# Altium footprint library X_8X4.5.PcbLib: 1 footprints
Each footprint in its own frame and in the unit in brackets; x right, y up, seen from the top. Pads: shape width x height; smd on the part's side, far side on the other; paste and mask are expansions set on the pad; w line width, h text height; cw(c..) or ccw(c..) is an arc to the next point about the centre after c.
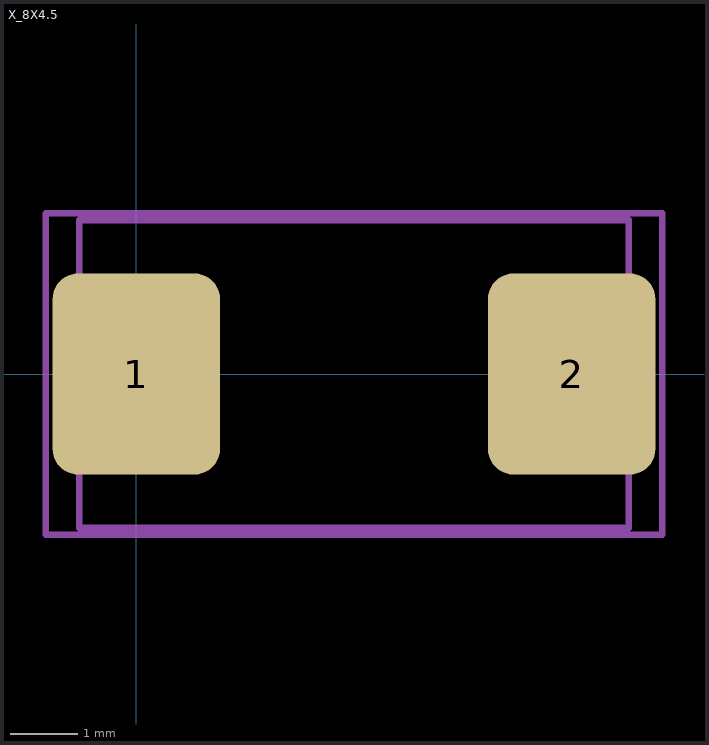
[diagram p0: the footprint, top view; thin cyan lines are the x and y axes]

## X_8X4.5 [mm]
pads (2):
  rrect30% 2.5x3 smd mask+0.05: 1(0,0) 2(6.5,0)
Top Assembly:
  lines w0.1: -0.85,-2.3 7.35,-2.3 7.35,2.3 -0.85,2.3 -0.85,-2.3
Top Courtyard:
  lines w0.1: -1.35,-2.4 6.45,-2.4 7.85,-2.4 7.85,1.2 7.85,2.4 -0.05,2.4 -1.35,2.4 -1.35,-1 -1.35,-2.4
3D body "User Library-cry_8045.STEP": height 1.8, standoff 0, extent -0.75,-2.25 7.25,2.25